# Altium footprint library Wifi-Vista_6AXIS.PcbLib: 2 footprints
Each footprint in its own frame and in the unit in brackets; x right, y up, seen from the top. Pads: shape width x height; smd on the part's side, far side on the other; paste and mask are expansions set on the pad; w line width, h text height; cw(c..) or ccw(c..) is an arc to the next point about the centre after c.
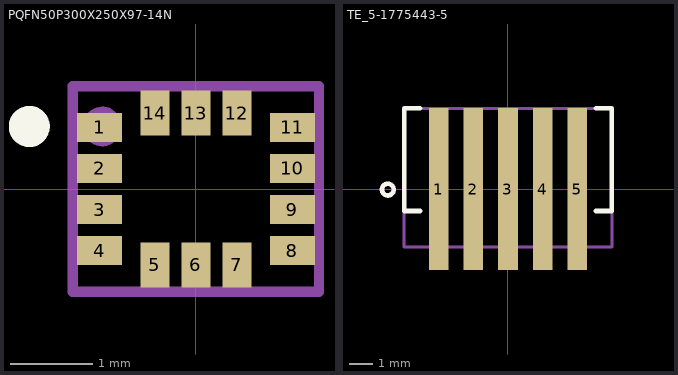
[diagram p0: the footprints below, top view; thin cyan lines are the x and y axes]

## PQFN50P300X250X97-14N [mm] "PQFN, 14-Leads, Body 3.00x2.50mm, Pitch 0.50mm, IPC Medium Density"
height 0.97
pads (14):
  rect 0.55x0.35 smd mask+0.051: 1(-1.175,0.75) 2(-1.175,0.25) 3(-1.175,-0.25) 4(-1.175,-0.75) 8(1.175,-0.75) 9(1.175,-0.25) 10(1.175,0.25) 11(1.175,0.75)
  rect 0.35x0.55 smd mask+0.051: 5(-0.5,-0.925) 6(0,-0.925) 7(0.5,-0.925) 12(0.5,0.925) 13(0,0.925) 14(-0.5,0.925)
Top Overlay:
  circle w0.25: c-2.032,0.762 r0.125
Mechanical 1:
  text "'.Designator'" at -0.381,-0.127 h1.52
Mechanical 15:
  circle w0.127: c-1.143,0.762 r0.178
  lines w0.127: -1.5,-1.25 1.5,-1.25 1.5,1.25 -1.5,1.25 -1.5,-1.25
3D body "PQFN50P300X250X97-14N.step": height 0.97, standoff 0, extent -1.5,-1.25 1.5,1.25

## TE_5-1775443-5 [mm]
height 5
pads (5):
  rect 0.85x7 smd: 1(-3,0) 2(-1.5,0) 3(0,0) 4(1.5,0) 5(3,0)
Top Overlay:
  circle w0.203: c-5.207,-0.025 r0.254
  lines w0.203: -3.81,-0.955 -4.5,-0.955 -4.5,1.27 -4.5,3.495 -3.81,3.495 ; 3.81,-0.955 4.5,-0.955 4.5,1.27 ; 3.81,3.495 4.5,3.495 4.5,0
Mechanical 1:
  text "'.Designator'" at 0,0 h1.52
Mechanical 15:
  circle w0.127: c-2.972,0 r0.203
  lines w0.127: -4.5,-2.505 -4.5,1.27 -4.5,3.495 0,3.495 4.5,3.495 4.5,-0.28 4.5,-2.505 0,-2.505 -4.5,-2.505
3D body: height 5, standoff 0, extent -4.496,-0.965 4.496,3.505